# Altium schematic symbol library CAP 1uF 50V.Schlib: 1 symbol
Pins are listed as number, name and electrical type; pins without a type are passive.

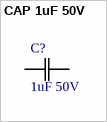
[diagram p0: symbol CAP 1uF 50V]

## CAP 1uF 50V
designator C?, comment 1uF 50V
CAP CER 1UF 50V X7R 0805; Tolerance: 10%; Package: 0805; Value: 1uF; Rating: 50V; Temperature Coefficient: X7R; Operating Temperature: -55°C ~ 125°C
footprint 0805
footprint 0603 (Chip Resistor, 2-Leads, Body 1.60x0.80mm, IPC High Density)
pins: 1 C1, 2 C2